# Altium footprint library RF_Module.PcbLib: 68 footprints (part 5 of 5)
Each footprint in its own frame and in the unit in brackets; x right, y up, seen from the top. Pads: shape width x height; smd on the part's side, far side on the other; paste and mask are expansions set on the pad; w line width, h text height; cw(c..) or ccw(c..) is an arc to the next point about the centre after c.
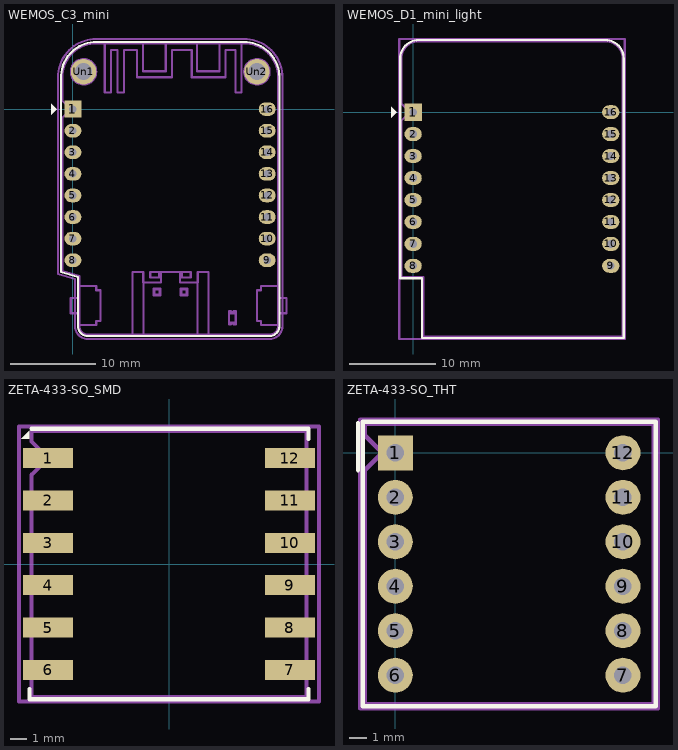
[diagram p4: the footprints below, top view; thin cyan lines are the x and y axes]

## WEMOS_C3_mini [mm]
pads (18):
  rect 2x2 hole 0.9: 1(0,0)
  rrect100% 2x1.6 hole 0.9: 2(0,-2.54) 3(0,-5.08) 4(0,-7.62) 5(0,-10.16) 6(0,-12.7) 7(0,-15.24) 8(0,-17.78) 9(22.86,-17.78) 10(22.86,-15.24) 11(22.86,-12.7) 12(22.86,-10.16) 13(22.86,-7.62) 14(22.86,-5.08) 15(22.86,-2.54) 16(22.86,0)
  round 3 hole 2: Un1(1.25,4.4) Un2(21.65,4.4)
F.SilkS:
  region: -1.905,0 -2.54,-0.635 -2.54,0.635
  lines w0.254: -1.4,3.647 -1.4,-19.15 0.6,-19.75 0.6,-25.547 ; -1.4,3.65 cw(c2.75,3.753) 2.75,7.904 ; 0.597,-25.547 ccw(c1.75,-25.547) 1.75,-26.7 ; 1.75,-26.697 23.15,-26.697 ccw(c23.15,-25.547) 24.3,-25.547 24.3,3.753 ; 2.75,7.9 20.2,7.9 ; 20.15,7.9 cw(c20.15,3.753) 24.297,3.753
F.Fab:
  circle w0.254: c21.65,4.4 r1
  circle w0.254: c21.65,4.4 r1.5
  circle w0.254: c1.25,4.4 r1
  circle w0.254: c1.25,4.4 r1.5
  lines w0.254: 0.75,-25.417 2.75,-25.417 2.75,-24.917 3.25,-24.917 3.25,-21.317 2.75,-21.317 2.75,-20.817 0.75,-20.817 ; 0.75,-24.017 -0.25,-24.017 -0.25,-22.217 0.75,-22.217 ; 3.75,7.753 3.75,1.953 4.473,1.953 4.473,6.953 5.25,6.953 5.25,1.953 6,1.953 6,6.953 7.55,6.953 7.55,3.753 11.65,3.753 11.65,6.953 13.988,6.953 13.988,3.753 17.964,3.753 17.964,6.953 19.15,6.953 19.15,1.953 19.836,1.953 19.836,7.753 ; 7.01,-24.411 7.01,-26.561 7.01,-19.161 8.276,-19.161 8.276,-20.411 8.31,-20.411 ; 8.25,7.753 8.25,4.453 10.927,4.453 10.927,7.753 ; 14.619,7.753 14.619,4.453 17.25,4.453 17.25,7.753 ; 15.95,-24.411 15.95,-26.561 15.95,-19.161 ; 15.95,-20.261 15.95,-19.161 ; 18.359,-24.018 19.141,-24.018 ; 18.4,-25.097 19.1,-25.097 ; 24.15,-25.417 22.15,-25.417 22.15,-24.917 21.65,-24.917 21.65,-21.317 22.15,-21.317 22.15,-20.817 24.15,-20.817 ; 24.15,-24.017 25.15,-24.017 25.15,-22.217 24.15,-22.217 ; 8.31,-20.411 10.38,-20.411 10.38,-19.811 ; 8.31,-20.411 8.31,-26.561 14.65,-26.561 14.65,-20.411 ; 9.48,-21.911 10.28,-21.911 ; 9.48,-21.911 9.58,-21.811 ; 9.48,-21.911 9.48,-21.111 ; 9.48,-21.111 10.28,-21.111 ; 9.48,-21.111 9.58,-21.211 ; 9.58,-21.811 10.18,-21.811 ; 9.58,-21.811 9.58,-21.211 ; 9.58,-21.211 10.18,-21.211 ; 10.123,-19.811 10.38,-19.811 ; 10.123,-19.811 10.123,-19.161 ; 10.123,-19.811 9.092,-19.811 9.092,-19.161 10.123,-19.161 ; 10.123,-19.161 10.38,-19.161 ; 10.18,-21.811 10.28,-21.911 ; 10.18,-21.811 10.18,-21.211 ; 10.18,-21.211 10.28,-21.111 ; 10.28,-21.911 10.28,-21.111 ; 10.38,-19.811 10.38,-19.161 ; 10.38,-19.161 12.58,-19.161 ; 12.58,-19.811 12.58,-20.411 14.65,-20.411 ; 12.58,-19.811 12.838,-19.811 ; 12.58,-19.811 12.58,-19.161 ; 12.58,-19.161 12.838,-19.161 ; 12.68,-21.911 13.48,-21.911 ; 12.68,-21.911 12.78,-21.811 ; 12.68,-21.911 12.68,-21.111 ; 12.68,-21.111 13.48,-21.111 ; 12.68,-21.111 12.78,-21.211 ; 12.78,-21.811 13.38,-21.811 ; 12.78,-21.811 12.78,-21.211 ; 12.78,-21.211 13.38,-21.211 ; 12.838,-19.811 13.869,-19.811 13.869,-19.161 12.838,-19.161 ; 12.838,-19.811 12.838,-19.161 ; 13.38,-21.811 13.48,-21.911 ; 13.38,-21.811 13.38,-21.211 ; 13.38,-21.211 13.48,-21.111 ; 13.48,-21.911 13.48,-21.111 ; 14.65,-20.411 14.685,-20.411 14.685,-19.161 15.95,-19.161 ; -1.25,-19.047 0.75,-19.647 0.75,-25.547 ccw(c1.75,-25.547) 1.75,-26.547 23.15,-26.547 ccw(c23.15,-25.547) 24.15,-25.547 24.15,3.753 ccw(c20.15,3.753) 20.15,7.753 2.75,7.753 ccw(c2.75,3.753) -1.25,3.753 -1.25,0.975 -0.25,-0.025 -1.25,-1.025 -1.25,-19.047 ; 18.35,-25.347 18.6,-25.347 cw(c18.75,-25.347) 18.9,-25.347 19.15,-25.347 19.15,-23.747 18.9,-23.747 cw(c18.75,-23.747) 18.6,-23.747 18.35,-23.747 18.35,-25.347
  text "'.Designator'" at 7.383,-10.84 h1
F.CrtYd:
  lines w0.254: -1.75,-19.4 0.25,-20 0.25,-25.55 ccw(c1.75,-25.55) 1.75,-27.05 23.15,-27.05 ccw(c23.15,-25.55) 24.65,-25.55 24.65,3.75 ccw(c20.15,3.75) 20.15,8.25 2.75,8.25 ccw(c2.75,3.75) -1.75,3.75 -1.75,-19.4

## WEMOS_D1_mini_light [mm]
pads (16):
  rect 2x2 hole 0.9: 1(0,0)
  rrect100% 2x1.6 hole 0.9: 2(0,-2.54) 3(0,-5.08) 4(0,-7.62) 5(0,-10.16) 6(0,-12.7) 7(0,-15.24) 8(0,-17.78) 9(22.86,-17.78) 10(22.86,-15.24) 11(22.86,-12.7) 12(22.86,-10.16) 13(22.86,-7.62) 14(22.86,-5.08) 15(22.86,-2.54) 16(22.86,0)
F.SilkS:
  region: -1.905,0 -2.54,-0.635 -2.54,0.635
  lines w0.254: 22.23,8.34 cw(c22.23,6.21) 24.36,6.21 24.36,-26.12 1.04,-26.12 1.04,-19.22 -1.5,-19.22 -1.5,6.21 cw(c0.63,6.21) 0.63,8.34 22.24,8.34
F.Fab:
  lines w0.254: 22.23,8.21 0.63,8.21 ccw(c0.63,6.21) -1.37,6.21 -1.37,1 -0.37,0 -1.37,-1 -1.37,-19.09 1.17,-19.09 1.17,-25.99 24.23,-25.99 24.23,6.21 ; 22.25,8.21 cw(c22.23,6.21) 24.23,6.19
  text "'.Designator'" at 7.383,-10.84 h1
F.CrtYd:
  lines w0.254: -1.62,-26.24 24.48,-26.24 24.48,8.46 -1.62,8.46 -1.62,-26.24
Cmts.User:
  text "No copper" at 7.816,2.993 h1
3D body "WEMOS_D1_mini_light.step": height 5.6, standoff -2.35, extent -1.58,-26.77 24.42,7.73

## ZETA-433-SO_SMD [mm]
pads (12):
  rect 3x1.2 smd: 1(-7.25,6.35) 2(-7.25,3.81) 3(-7.25,1.27) 4(-7.25,-1.27) 5(-7.25,-3.81) 6(-7.25,-6.35) 7(7.25,-6.35) 8(7.25,-3.81) 9(7.25,-1.27) 10(7.25,1.27) 11(7.25,3.81) 12(7.25,6.35)
F.SilkS:
  region: -8.37,7.5 -8.87,7.5 -8.37,8
  lines w0.254: -8.37,-7.5 -8.37,-8.12 8.37,-8.12 8.37,-7.5 ; -8.25,8.12 8.37,8.12 8.37,7.5
F.Fab:
  lines w0.254: -8.25,-8 -8.25,5.35 -7.25,6.35 -8.25,7.35 -8.25,8 8.25,8 8.25,-8 -8.25,-8
  text "'.Designator'" at -4.047,-0.84 h1
F.CrtYd:
  lines w0.254: -9,-8.25 -9,8.25 9,8.25 9,-8.25 -9,-8.25
3D body "ZETA-433-SO_SMD.step": height 1.3, standoff 0, extent -8.25,-8 8.25,8

## ZETA-433-SO_THT [mm]
pads (12):
  rect 2x2 hole 1: 1(0,0)
  round 2 hole 1: 2(0,-2.54) 3(0,-5.08) 4(0,-7.62) 5(0,-10.16) 6(0,-12.7) 7(13,-12.7) 8(13,-10.16) 9(13,-7.62) 10(13,-5.08) 11(13,-2.54) 12(13,0)
F.SilkS:
  lines w0.254: -2.13,-1 -2.13,1.7 ; -1.87,-14.47 14.87,-14.47 14.87,1.77 -1.87,1.77 -1.87,-14.47
F.Fab:
  lines w0.254: -1.75,-14.35 14.75,-14.35 14.75,1.65 -1.75,1.65 -1.75,1 -0.75,0 -1.75,-1 -1.75,-14.35
  text "'.Designator'" at 2.453,-7.19 h1
F.CrtYd:
  lines w0.254: -2,-14.6 15,-14.6 15,1.9 -2,1.9 -2,-14.6
3D body "ZETA-433-SO_THT.step": height 1.3, standoff 0, extent -1.75,-14.35 14.75,1.65